# EAGLE library part ATTINY20-MMH (library attiny20)
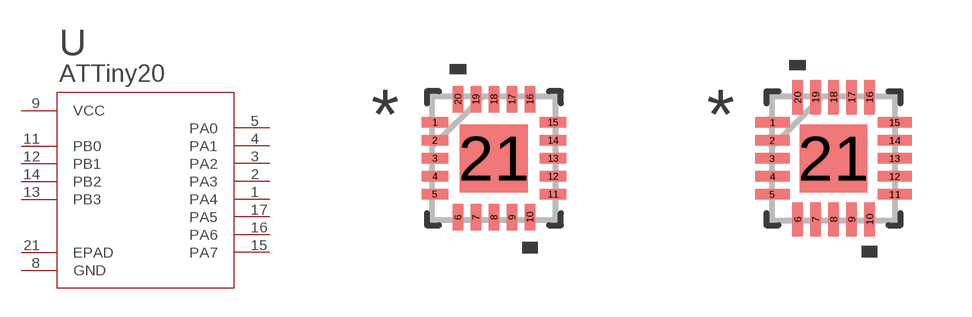
[diagram p0: symbol with the pads of 20M2; footprints 20M2, 20M2-M]

Designator prefix U

## ATTINY20-MMH (MANUFACTURER_PART_NUMBER: ATTINY20MMH; VENDOR: Atmel)  [20M2]
1  PA4
2  PA3
3  PA2
4  PA1
5  PA0
8  GND  pwr
9  VCC  pwr
11  PB0
12  PB1
13  PB3
14  PB2
15  PA7
16  PA6
17  PA5
21  EPAD  pas

## ATTINY20-MMH20M2-M (MANUFACTURER_PART_NUMBER: ATTINY20MMH; VENDOR: Atmel)  [20M2-M]
Pads as for 20M2

## ATTINY20-MMH20M2-L (MANUFACTURER_PART_NUMBER: ATTINY20MMH; VENDOR: Atmel)  [20M2-L]
Pads as for 20M2

## Footprint 20M2 (pad centres in mm)
smd 0.66 x 0.254: 1 -1.477,0.9; 2 -1.477,0.45; 3 -1.477,0; 4 -1.477,-0.45; 5 -1.477,-0.9; 11 1.477,-0.9; 12 1.477,-0.45; 13 1.477,0; 14 1.477,0.45; 15 1.477,0.9
smd 0.254 x 0.66: 6 -0.9,-1.477; 7 -0.45,-1.477; 8 0,-1.477; 9 0.45,-1.477; 10 0.9,-1.477; 16 0.9,1.477; 17 0.45,1.477; 18 0,1.477; 19 -0.45,1.477; 20 -0.9,1.477
smd 1.7 x 1.7: 21 0,0

## Footprint 20M2-M (pad centres in mm)
smd 0.856 x 0.27: 1 -1.528,0.9; 2 -1.528,0.45; 3 -1.528,0; 4 -1.528,-0.45; 5 -1.528,-0.9; 11 1.528,-0.9; 12 1.528,-0.45; 13 1.528,0; 14 1.528,0.45; 15 1.528,0.9
smd 0.27 x 0.856: 6 -0.9,-1.528; 7 -0.45,-1.528; 8 0,-1.528; 9 0.45,-1.528; 10 0.9,-1.528; 16 0.9,1.528; 17 0.45,1.528; 18 0,1.528; 19 -0.45,1.528; 20 -0.9,1.528
smd 1.7 x 1.7: 21 0,0

## Footprint 20M2-L (pad centres in mm)
smd 0.653 x 0.27: 1 -1.427,0.9; 2 -1.427,0.45; 3 -1.427,0; 4 -1.427,-0.45; 5 -1.427,-0.9; 11 1.427,-0.9; 12 1.427,-0.45; 13 1.427,0; 14 1.427,0.45; 15 1.427,0.9
smd 0.27 x 0.653: 6 -0.9,-1.427; 7 -0.45,-1.427; 8 0,-1.427; 9 0.45,-1.427; 10 0.9,-1.427; 16 0.9,1.427; 17 0.45,1.427; 18 0,1.427; 19 -0.45,1.427; 20 -0.9,1.427
smd 1.7 x 1.7: 21 0,0